# Altium schematic symbol library Audio Jack.SchLib: 1 symbol
Pins are listed as number, name and electrical type; pins without a type are passive.

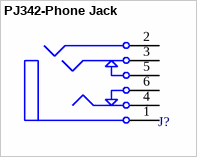
[diagram p0: symbol PJ342-Phone Jack]

## PJ342-Phone Jack
designator J?, comment PJ342  (value not drawn)
SAPO_NAME: Jack Audio 3.5MM PJ-342 6P (SMD); SAPO_CODE: 202870; Mounting_Type: Surface_Mount; Price: 2000; Value: PJ342; Parameter 1: *
footprint PJ-342
pins: 1, 2, 3, 4, 5, 6